# Altium schematic symbol library MSS1038-123MLB.SchLib: 2 symbols
Pins are listed as number, name and electrical type; pins without a type are passive.

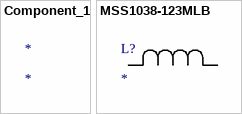
[diagram p0: symbols Component_1 to MSS1038-123MLB]

## Component_1
designator *

## MSS1038-123MLB
designator L?
No Description Available; Mfr_Name: Coilcraft
footprint IND_MSS1038_COC
pins: 1, 2